# Altium footprint library PcbLib.PcbLib: 5 footprints
Each footprint in its own frame and in the unit in brackets; x right, y up, seen from the top. Pads: shape width x height; smd on the part's side, far side on the other; paste and mask are expansions set on the pad; w line width, h text height; cw(c..) or ccw(c..) is an arc to the next point about the centre after c.
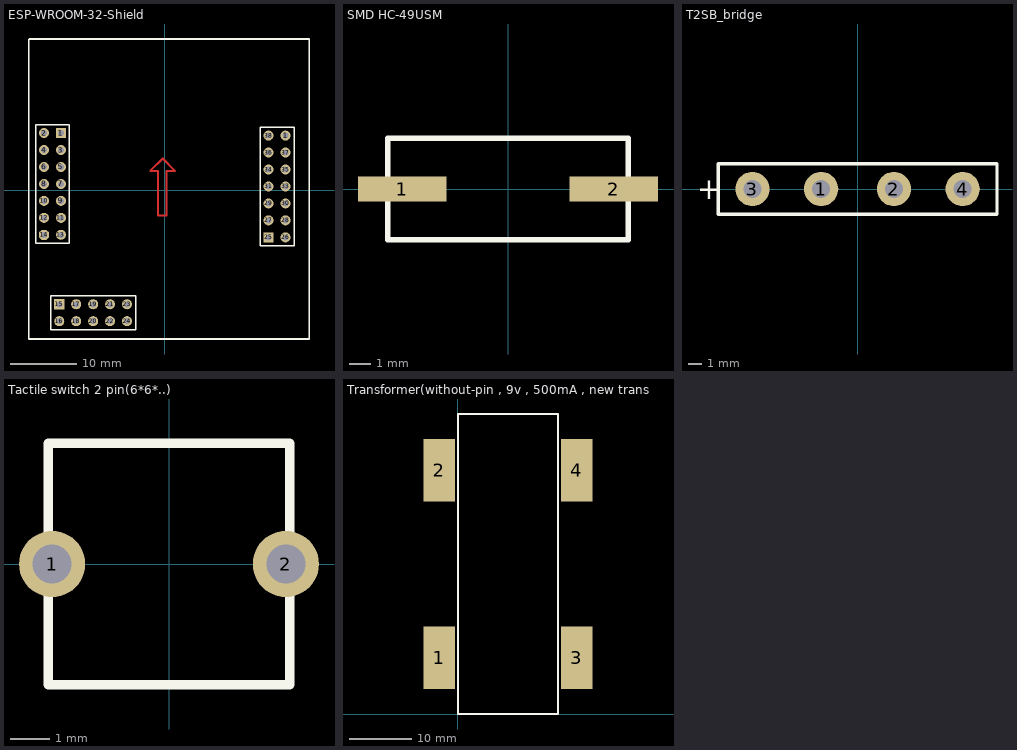
[diagram p0: the footprints below, top view; thin cyan lines are the x and y axes]

## ESP-WROOM-32-Shield [mm]
pads (38):
  rect 1.5x1.5 hole 0.9: 1(-15.557,8.572) 15(-15.811,-17.081) 25(15.557,-7.048)
  round 1.5 hole 0.9: 1(18.098,8.191) 2(-18.098,8.572) 3(-15.557,6.032) 4(-18.098,6.032) 5(-15.557,3.492) 6(-18.098,3.492) 7(-15.557,0.953) 8(-18.098,0.953) 9(-15.557,-1.587) 10(-18.098,-1.587) 11(-15.557,-4.127) 12(-18.098,-4.127) 13(-15.557,-6.667) 16(-15.811,-19.621) 17(-13.271,-17.081) 18(-13.271,-19.621) 19(-10.731,-17.081) 20(-10.731,-19.621) 21(-8.191,-17.081) 22(-8.191,-19.621) 23(-5.651,-17.081) 24(-5.651,-19.621) 26(18.098,-7.048) 27(15.557,-4.508) 28(18.098,-4.508) 29(15.557,-1.968) 30(18.098,-1.968) 31(15.557,0.572) 33(18.098,0.572) 34(15.557,3.111) 35(18.098,3.111) 36(15.557,5.651) 37(18.098,5.651) 38(15.557,8.191)
  oct 1.5x1.5 hole 0.9: 14(-18.098,-6.667)
Top Layer:
  lines w0.3: -2.159,2.921 -1.016,2.921 -1.016,-3.81 0.254,-3.81 0.254,2.921 1.524,2.921 -0.318,4.763 -2.159,2.921
Top Overlay:
  lines w0.2: -19.367,-7.938 -19.367,9.842 -14.287,9.842 -14.287,-7.938 -19.367,-7.938 ; -17.081,-20.892 -4.381,-20.892 -4.381,-15.811 -17.081,-15.811 -17.081,-20.892 ; 14.287,-8.319 19.367,-8.319 19.367,9.461 14.287,9.461 14.287,-8.319
  lines w0.254: -20.383,-22.288 21.653,-22.288 21.653,22.669 -20.256,22.669 -20.383,22.543 -20.383,-22.288

## SMD HC-49USM [mm]
pads (2):
  rect 4.2x1.2 smd: 1(-5,0) 2(5,0)
Top Overlay:
  lines w0.254: -5.7,-2.4 -5.7,2.4 5.7,2.4 5.7,-2.4 -5.7,-2.4

## T2SB_bridge [mm]
pads (4):
  round 2.5 hole 1.3: 1(-2.65,0) 2(2.65,0) 3(-7.65,0) 4(7.65,0)
Top Overlay:
  lines w0.254: -10.15,-1.85 -10.15,1.85 10.15,1.85 10.15,-1.85 -10.15,-1.85
  text "+" at -11.684,-0.762 h1.52

## Tactile switch 2 pin(6*6*..) [mm]
pads (2):
  round 1.7 hole 1: 1(-3,0) 2(3,0)
Top Overlay:
  lines w0.254: -3.1,-3.1 -3.1,3.1 3.1,3.1 3.1,-3.1 -3.1,-3.1

## Transformer(without-pin , 9v , 500mA , new trans) [mm]
pads (4):
  rect 5x10 smd: 1(-3,9) 2(-3,39) 3(19,9) 4(19,39)
Top Overlay:
  lines w0.254: 0,0 0,48 16,48 16,0 0,0